# EAGLE library part USBLC6 (library TVS_diodes)
TVS DIODE 5.25V 17V
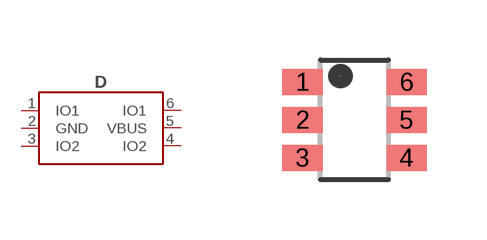
[diagram p1: symbol with the pads of SOT23-6; footprint SOT23-6]

Designator prefix D

## USBLC6 (DIGIKEY#: 497-5235-1-ND; MANF: STMicroelectronics; MANF#: USBLC6-2SC6)  [SOT23-6]
1  IO1
2  GND
3  IO2
4  IO2
5  VBUS
6  IO1

## Footprint SOT23-6 (pad centres in mm)
smd 1 x 0.65: 1 -1.3,0.95; 2 -1.3,0; 3 -1.3,-0.95; 4 1.3,-0.95; 5 1.3,0; 6 1.3,0.95